# Altium schematic symbol library 175446-6.SchLib: 1 symbol
Pins are listed as number, name and electrical type; pins without a type are passive.

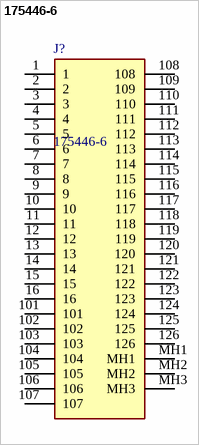
[diagram p0: symbol 175446-6]

## 175446-6
designator J?
Body Features: Primary Product Color Gray | Configuration Features: PCB Mount Orientation Right Angle | Number of Positions 42 | Number of Rows 2 | Contact Features: Contact Type Tab | Contact Mating Area Plating Material Tin (Sn) | Contact Mating Area Plating Material Gold (Au) | Housing Features: Centerline (Pitch) 3 MM | Centerline (Pitch) .118 INCH | Centerline (Pitch) 3.5 MM | Centerline (Pitch) .137 INCH | Mechanical Attachment: PCB Mount Alignment With | PCB Mount Retention Without | Connector Mounti; Manufacturer_Name: TE Connectivity; Geometry.Height: 22.2mm; Mouser Part Number: 571-175446-6; Mouser Price/Stock: https://www.mouser.co.uk/ProductDetail/TE-Connectivity-AMP/175446-6?qs=NCjoA4VtBPm%2FgYobaI%252BBdg%3D%3D; Manufacturer_Part_Number: 175446-6; Datasheet Link: https://www.te.com/commerce/DocumentDelivery/DDEController?Action=srchrtrv&DocNm=175446&DocType=Customer+Drawing&DocLang=Japanese
footprint 1754466
pins: 1, 2, 3, 4, 5, 6, 7, 8, 9, 10, 11, 12, 13, 14, 15, 16, 101, 102, 103, 104, 105, 106, 107, 108, 109, 110, 111, 112, 113, 114, 115, 116, 117, 118, 119, 120, 121, 122, 123, 124, 125, 126, MH1, MH2, MH3